# EAGLE library part SN65LBC173A (library texas)
Quadruple RS-485 Differential Line Receiver
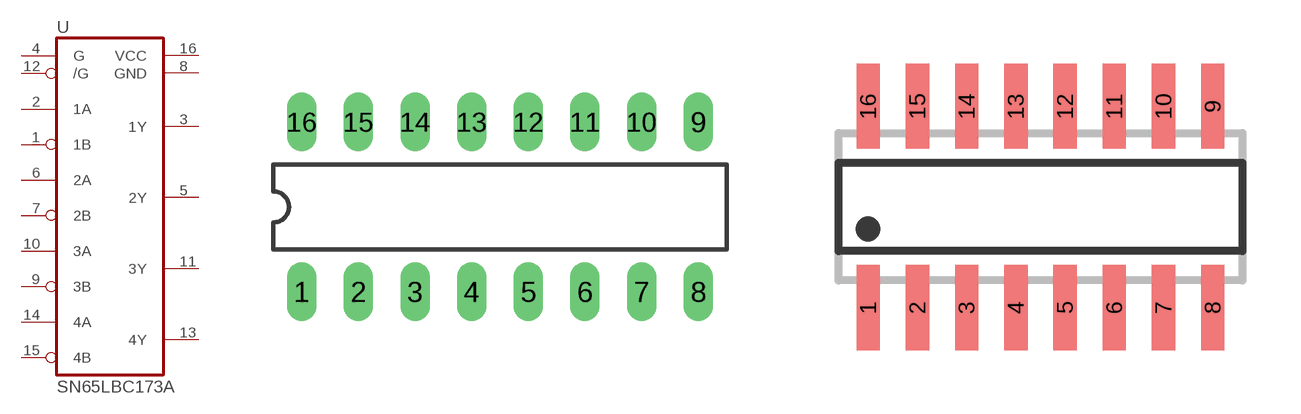
[diagram p72: symbol with the pads of DIL16; footprints DIL16, SO16]

Designator prefix U

## SN65LBC173AN  [DIL16]
1  1B  in
2  1A  in
3  1Y  out
4  G  in
5  2Y  out
6  2A  in
7  2B  in
8  GND  pwr
9  3B  in
10  3A  in
11  3Y  out
12  /G  in
13  4Y  out
14  4A  in
15  4B  in
16  VCC  pwr

## SN65LBC173AD  [SO16]
Pads as for DIL16

## Footprint DIL16 (pad centres in mm)
Dual In Line Package
drill 0.813 long: 1 -8.89,-3.81; 2 -6.35,-3.81; 3 -3.81,-3.81; 4 -1.27,-3.81; 5 1.27,-3.81; 6 3.81,-3.81; 7 6.35,-3.81; 8 8.89,-3.81; 9 8.89,3.81; 10 6.35,3.81; 11 3.81,3.81; 12 1.27,3.81; 13 -1.27,3.81; 14 -3.81,3.81; 15 -6.35,3.81; 16 -8.89,3.81

## Footprint SO16 (pad centres in mm)
SMALL OUTLINE INTEGRATED CIRCUIT body 3.9 mm/JEDEC MS-012AC
smd 0.6 x 2.2: 1 -4.445,-2.6; 2 -3.175,-2.6; 3 -1.905,-2.6; 4 -0.635,-2.6; 5 0.635,-2.6; 6 1.905,-2.6; 7 3.175,-2.6; 8 4.445,-2.6; 9 4.445,2.6; 10 3.175,2.6; 11 1.905,2.6; 12 0.635,2.6; 13 -0.635,2.6; 14 -1.905,2.6; 15 -3.175,2.6; 16 -4.445,2.6